# Altium integrated library con-panduit.IntLib: 22 symbols
Pins are listed as number, name and electrical type; pins without a type are passive.

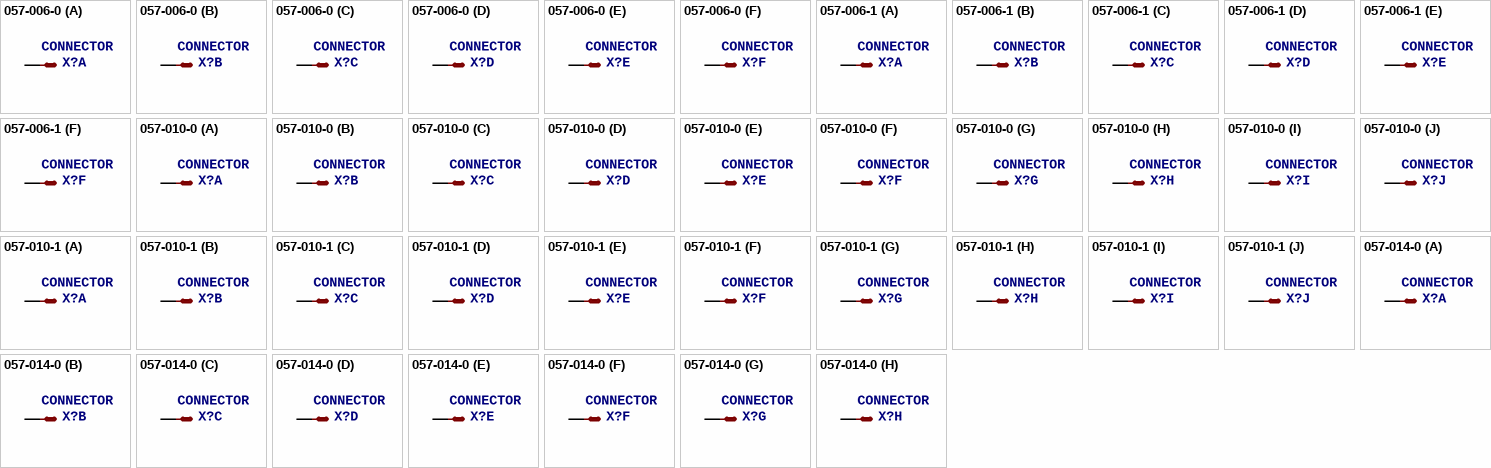
[diagram p0: symbols 057-006-0 to 057-014-0]

## 057-006-0
designator X?, comment CONNECTOR   6-pin series 057 contact pc board low profile headers
OC_FARNELL: unknown; OC_NEWARK: unknown
footprint 057-006-0
part A pins: 1 S
part B pins: 2 S
part C pins: 3 S
part D pins: 4 S
part E pins: 5 S
part F pins: 6 S

## 057-006-1
designator X?, comment CONNECTOR   6-pin series 057 contact pc board low profile headers
OC_FARNELL: unknown; OC_NEWARK: unknown
footprint 057-006-1
part A pins: 1 S
part B pins: 2 S
part C pins: 3 S
part D pins: 4 S
part E pins: 5 S
part F pins: 6 S

## 057-010-0
designator X?, comment CONNECTOR   10-pin series 057 contact pc board low profile headers
OC_FARNELL: unknown; OC_NEWARK: unknown
footprint 057-010-0
part A pins: 1 S
part B pins: 2 S
part C pins: 3 S
part D pins: 4 S
part E pins: 5 S
part F pins: 6 S
part G pins: 7 S
part H pins: 8 S
part I pins: 9 S
part J pins: 10 S

## 057-010-1
designator X?, comment CONNECTOR   10-pin series 057 contact pc board low profile headers
OC_FARNELL: unknown; OC_NEWARK: unknown
footprint 057-010-1
part A pins: 1 S
part B pins: 2 S
part C pins: 3 S
part D pins: 4 S
part E pins: 5 S
part F pins: 6 S
part G pins: 7 S
part H pins: 8 S
part I pins: 9 S
part J pins: 10 S

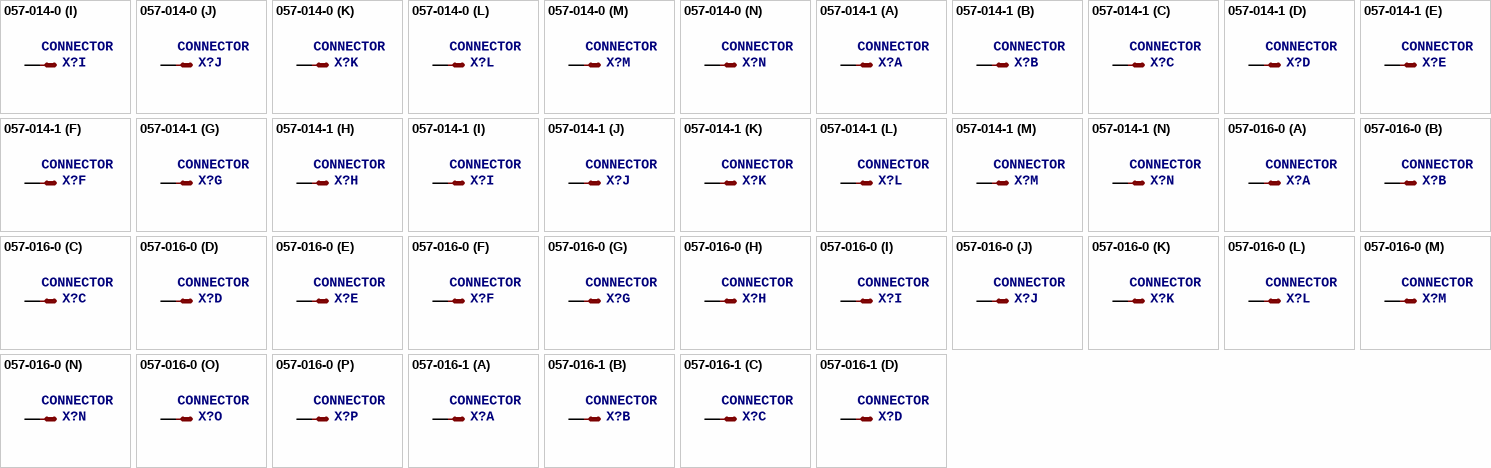
[diagram p1: symbols 057-014-0 to 057-016-1]

## 057-014-0
designator X?, comment CONNECTOR   10-pin series 057 contact pc board low profile headers
OC_FARNELL: unknown; OC_NEWARK: unknown
footprint 057-014-0
part A pins: 1 S
part B pins: 2 S
part C pins: 3 S
part D pins: 4 S
part E pins: 5 S
part F pins: 6 S
part G pins: 7 S
part H pins: 8 S
part I pins: 9 S
part J pins: 10 S
part K pins: 11 S
part L pins: 12 S
part M pins: 13 S
part N pins: 14 S

## 057-014-1
designator X?, comment CONNECTOR   10-pin series 057 contact pc board low profile headers
OC_FARNELL: unknown; OC_NEWARK: unknown
footprint 057-014-1
part A pins: 1 S
part B pins: 2 S
part C pins: 3 S
part D pins: 4 S
part E pins: 5 S
part F pins: 6 S
part G pins: 7 S
part H pins: 8 S
part I pins: 9 S
part J pins: 10 S
part K pins: 11 S
part L pins: 12 S
part M pins: 13 S
part N pins: 14 S

## 057-016-0
designator X?, comment CONNECTOR   10-pin series 057 contact pc board low profile headers
OC_FARNELL: unknown; OC_NEWARK: unknown
footprint 057-016-0
part A pins: 1 S
part B pins: 2 S
part C pins: 3 S
part D pins: 4 S
part E pins: 5 S
part F pins: 6 S
part G pins: 7 S
part H pins: 8 S
part I pins: 9 S
part J pins: 10 S
part K pins: 11 S
part L pins: 12 S
part M pins: 13 S
part N pins: 14 S
part O pins: 15 S
part P pins: 16 S

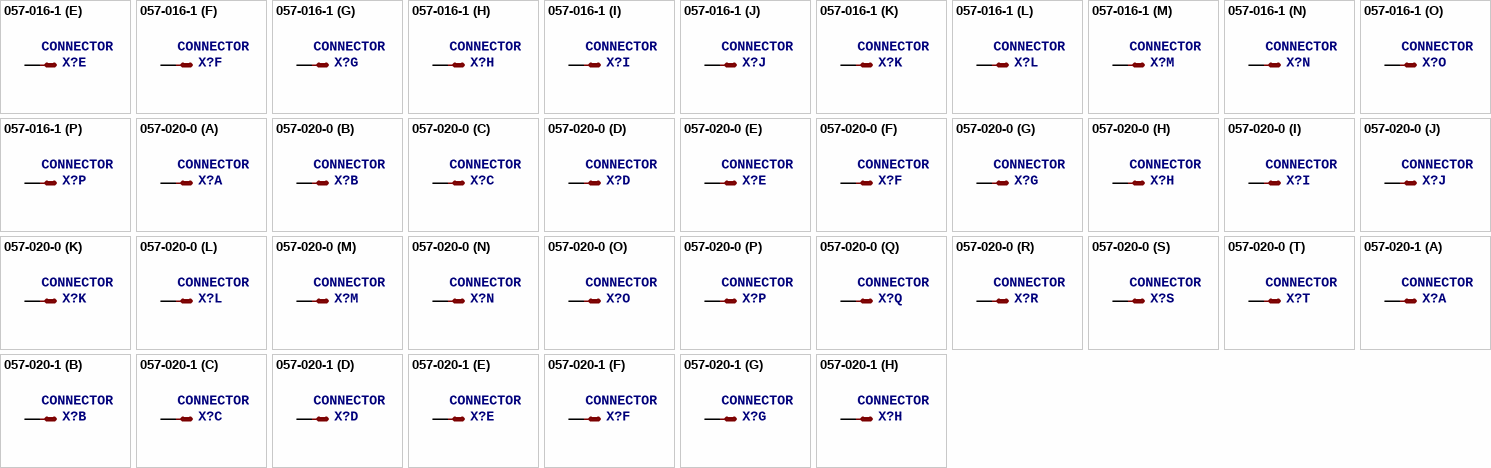
[diagram p2: symbols 057-016-1 to 057-020-1]

## 057-016-1
designator X?, comment CONNECTOR   10-pin series 057 contact pc board low profile headers
OC_FARNELL: unknown; OC_NEWARK: unknown
footprint 057-016-1
part A pins: 1 S
part B pins: 2 S
part C pins: 3 S
part D pins: 4 S
part E pins: 5 S
part F pins: 6 S
part G pins: 7 S
part H pins: 8 S
part I pins: 9 S
part J pins: 10 S
part K pins: 11 S
part L pins: 12 S
part M pins: 13 S
part N pins: 14 S
part O pins: 15 S
part P pins: 16 S

## 057-020-0
designator X?, comment CONNECTOR   20-pin series 057 contact pc board low profile headers
OC_FARNELL: unknown; OC_NEWARK: unknown
footprint 057-020-0
part A pins: 1 S
part B pins: 2 S
part C pins: 3 S
part D pins: 4 S
part E pins: 5 S
part F pins: 6 S
part G pins: 7 S
part H pins: 8 S
part I pins: 9 S
part J pins: 10 S
part K pins: 11 S
part L pins: 12 S
part M pins: 13 S
part N pins: 14 S
part O pins: 15 S
part P pins: 16 S
part Q pins: 17 S
part R pins: 18 S
part S pins: 19 S
part T pins: 20 S

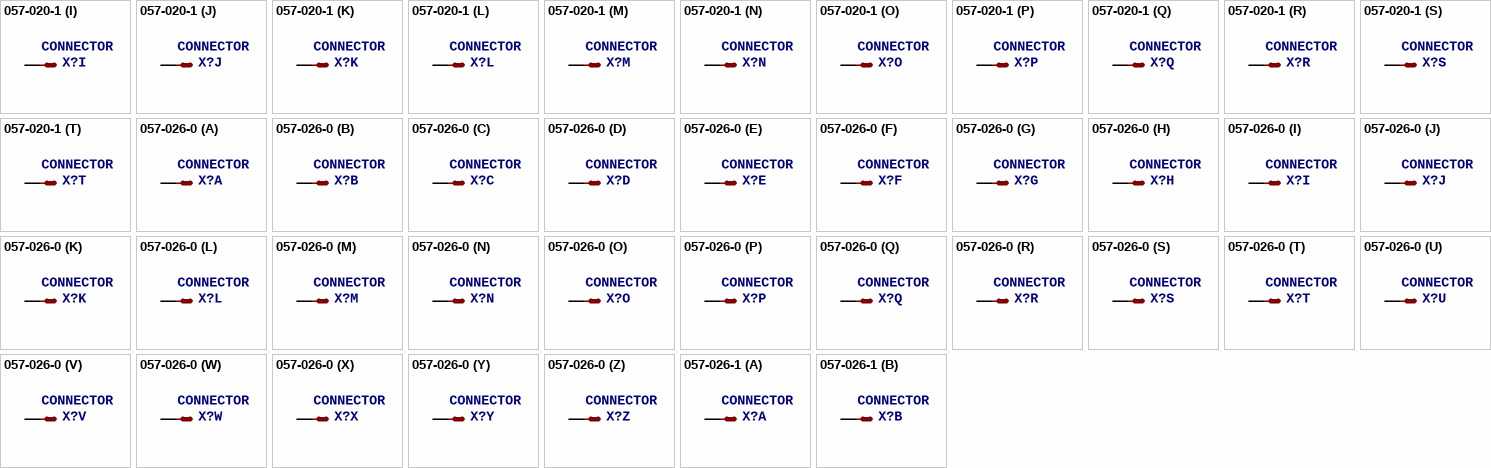
[diagram p3: symbols 057-020-1 to 057-026-1]

## 057-020-1
designator X?, comment CONNECTOR   20-pin series 057 contact pc board low profile headers
OC_FARNELL: unknown; OC_NEWARK: unknown
footprint 057-020-1
part A pins: 1 S
part B pins: 2 S
part C pins: 3 S
part D pins: 4 S
part E pins: 5 S
part F pins: 6 S
part G pins: 7 S
part H pins: 8 S
part I pins: 9 S
part J pins: 10 S
part K pins: 11 S
part L pins: 12 S
part M pins: 13 S
part N pins: 14 S
part O pins: 15 S
part P pins: 16 S
part Q pins: 17 S
part R pins: 18 S
part S pins: 19 S
part T pins: 20 S

## 057-026-0
designator X?, comment CONNECTOR   20-pin series 057 contact pc board low profile headers
OC_FARNELL: unknown; OC_NEWARK: unknown
footprint 057-026-0
part A pins: 1 S
part B pins: 2 S
part C pins: 3 S
part D pins: 4 S
part E pins: 5 S
part F pins: 6 S
part G pins: 7 S
part H pins: 8 S
part I pins: 9 S
part J pins: 10 S
part K pins: 11 S
part L pins: 12 S
part M pins: 13 S
part N pins: 14 S
part O pins: 15 S
part P pins: 16 S
part Q pins: 17 S
part R pins: 18 S
part S pins: 19 S
part T pins: 20 S
part U pins: 21 S
part V pins: 22 S
part W pins: 23 S
part X pins: 24 S
part Y pins: 25 S
part Z pins: 26 S

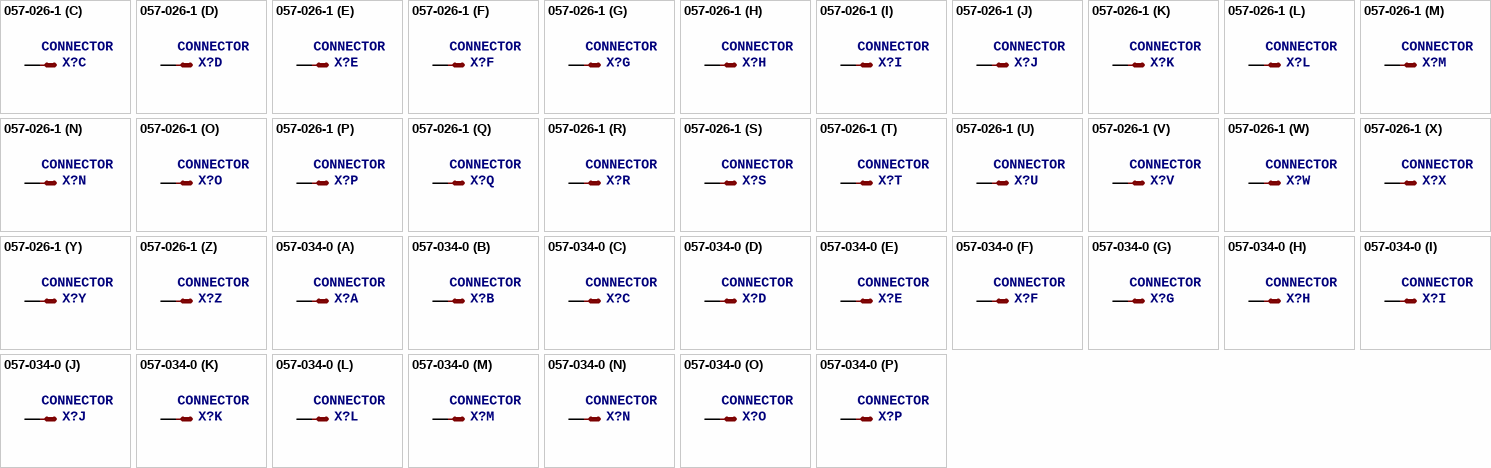
[diagram p4: symbols 057-026-1 to 057-034-0]

## 057-026-1
designator X?, comment CONNECTOR   20-pin series 057 contact pc board low profile headers
OC_FARNELL: unknown; OC_NEWARK: unknown
footprint 057-026-1
part A pins: 1 S
part B pins: 2 S
part C pins: 3 S
part D pins: 4 S
part E pins: 5 S
part F pins: 6 S
part G pins: 7 S
part H pins: 8 S
part I pins: 9 S
part J pins: 10 S
part K pins: 11 S
part L pins: 12 S
part M pins: 13 S
part N pins: 14 S
part O pins: 15 S
part P pins: 16 S
part Q pins: 17 S
part R pins: 18 S
part S pins: 19 S
part T pins: 20 S
part U pins: 21 S
part V pins: 22 S
part W pins: 23 S
part X pins: 24 S
part Y pins: 25 S
part Z pins: 26 S

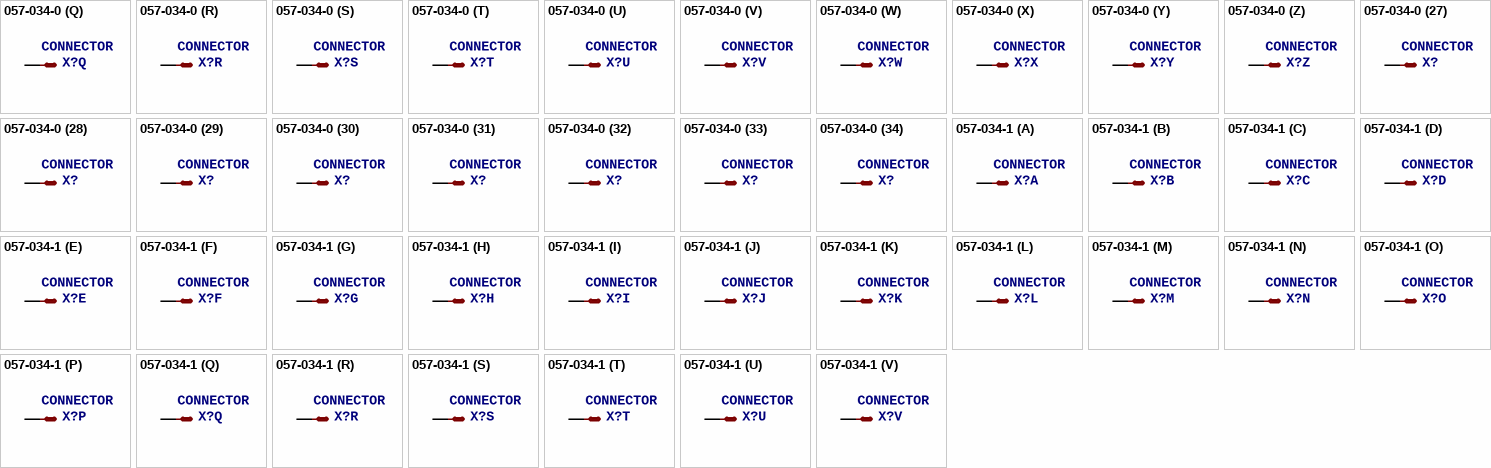
[diagram p5: symbols 057-034-0 to 057-034-1]

## 057-034-0
designator X?, comment CONNECTOR   34-pin series 057 contact pc board low profile headers
OC_FARNELL: unknown; OC_NEWARK: unknown
footprint 057-034-0
part A pins: 1 S
part B pins: 2 S
part C pins: 3 S
part D pins: 4 S
part E pins: 5 S
part F pins: 6 S
part G pins: 7 S
part H pins: 8 S
part I pins: 9 S
part J pins: 10 S
part K pins: 11 S
part L pins: 12 S
part M pins: 13 S
part N pins: 14 S
part O pins: 15 S
part P pins: 16 S
part Q pins: 17 S
part R pins: 18 S
part S pins: 19 S
part T pins: 20 S
part U pins: 21 S
part V pins: 22 S
part W pins: 23 S
part X pins: 24 S
part Y pins: 25 S
part Z pins: 26 S
part 27 pins: 27 S
part 28 pins: 28 S
part 29 pins: 29 S
part 30 pins: 30 S
part 31 pins: 31 S
part 32 pins: 32 S
part 33 pins: 33 S
part 34 pins: 34 S

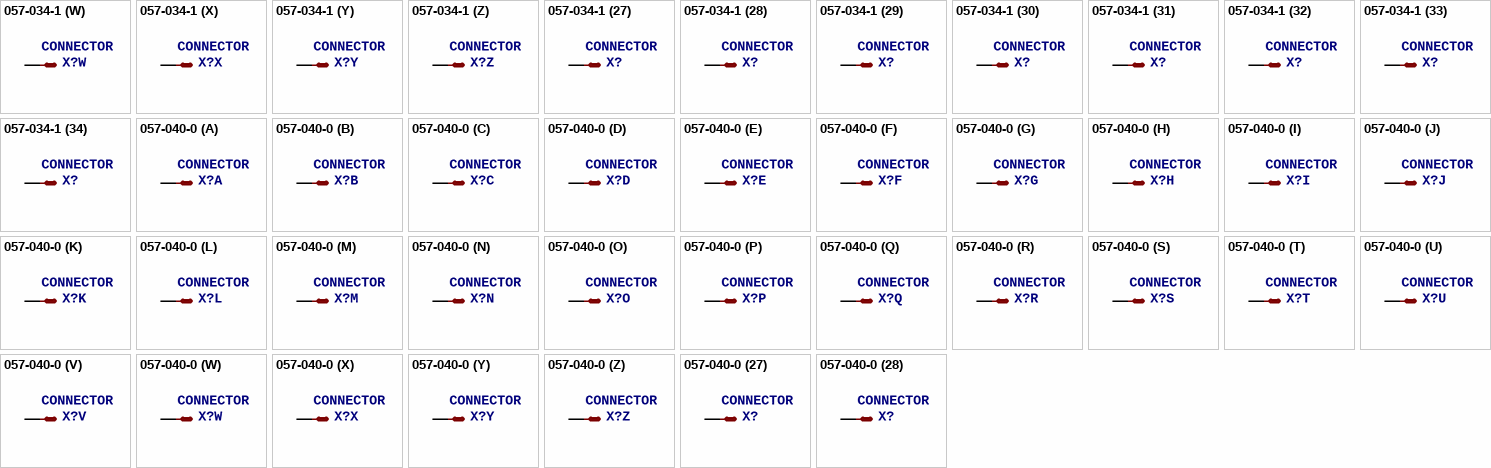
[diagram p6: symbols 057-034-1 to 057-040-0]

## 057-034-1
designator X?, comment CONNECTOR   34-pin series 057 contact pc board low profile headers
OC_FARNELL: unknown; OC_NEWARK: unknown
footprint 057-034-1
part A pins: 1 S
part B pins: 2 S
part C pins: 3 S
part D pins: 4 S
part E pins: 5 S
part F pins: 6 S
part G pins: 7 S
part H pins: 8 S
part I pins: 9 S
part J pins: 10 S
part K pins: 11 S
part L pins: 12 S
part M pins: 13 S
part N pins: 14 S
part O pins: 15 S
part P pins: 16 S
part Q pins: 17 S
part R pins: 18 S
part S pins: 19 S
part T pins: 20 S
part U pins: 21 S
part V pins: 22 S
part W pins: 23 S
part X pins: 24 S
part Y pins: 25 S
part Z pins: 26 S
part 27 pins: 27 S
part 28 pins: 28 S
part 29 pins: 29 S
part 30 pins: 30 S
part 31 pins: 31 S
part 32 pins: 32 S
part 33 pins: 33 S
part 34 pins: 34 S

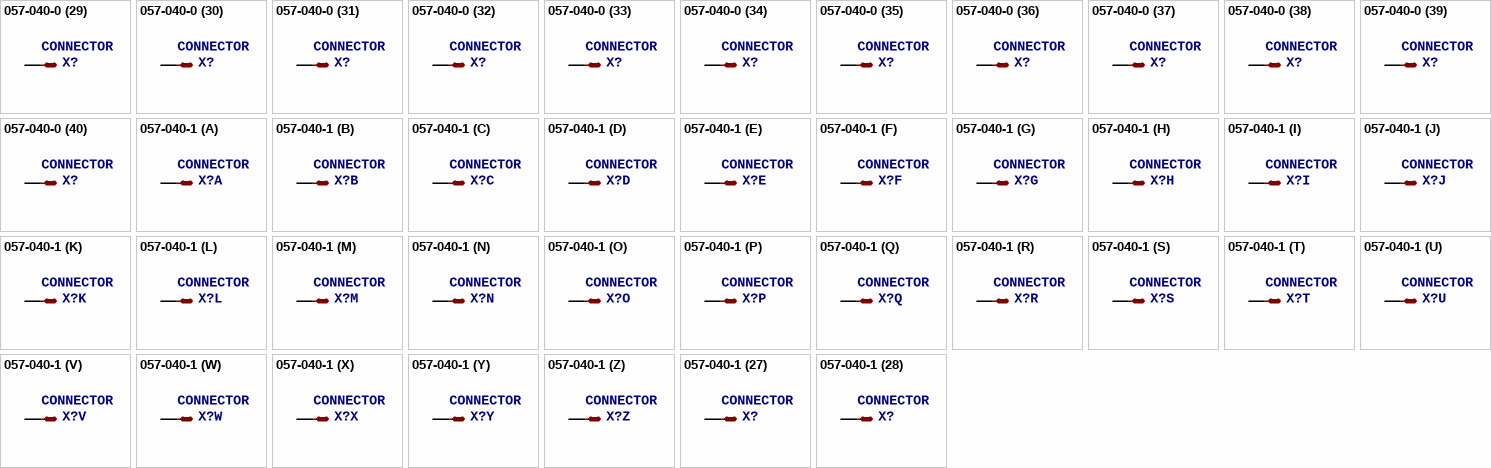
[diagram p7: symbols 057-040-0 to 057-040-1]

## 057-040-0
designator X?, comment CONNECTOR   40-pin series 057 contact pc board low profile headers
OC_FARNELL: unknown; OC_NEWARK: unknown
footprint 057-040-0
part A pins: 1 S
part B pins: 2 S
part C pins: 3 S
part D pins: 4 S
part E pins: 5 S
part F pins: 6 S
part G pins: 7 S
part H pins: 8 S
part I pins: 9 S
part J pins: 10 S
part K pins: 11 S
part L pins: 12 S
part M pins: 13 S
part N pins: 14 S
part O pins: 15 S
part P pins: 16 S
part Q pins: 17 S
part R pins: 18 S
part S pins: 19 S
part T pins: 20 S
part U pins: 21 S
part V pins: 22 S
part W pins: 23 S
part X pins: 24 S
part Y pins: 25 S
part Z pins: 26 S
part 27 pins: 27 S
part 28 pins: 28 S
part 29 pins: 29 S
part 30 pins: 30 S
part 31 pins: 31 S
part 32 pins: 32 S
part 33 pins: 33 S
part 34 pins: 34 S
part 35 pins: 35 S
part 36 pins: 36 S
part 37 pins: 37 S
part 38 pins: 38 S
part 39 pins: 39 S
part 40 pins: 40 S

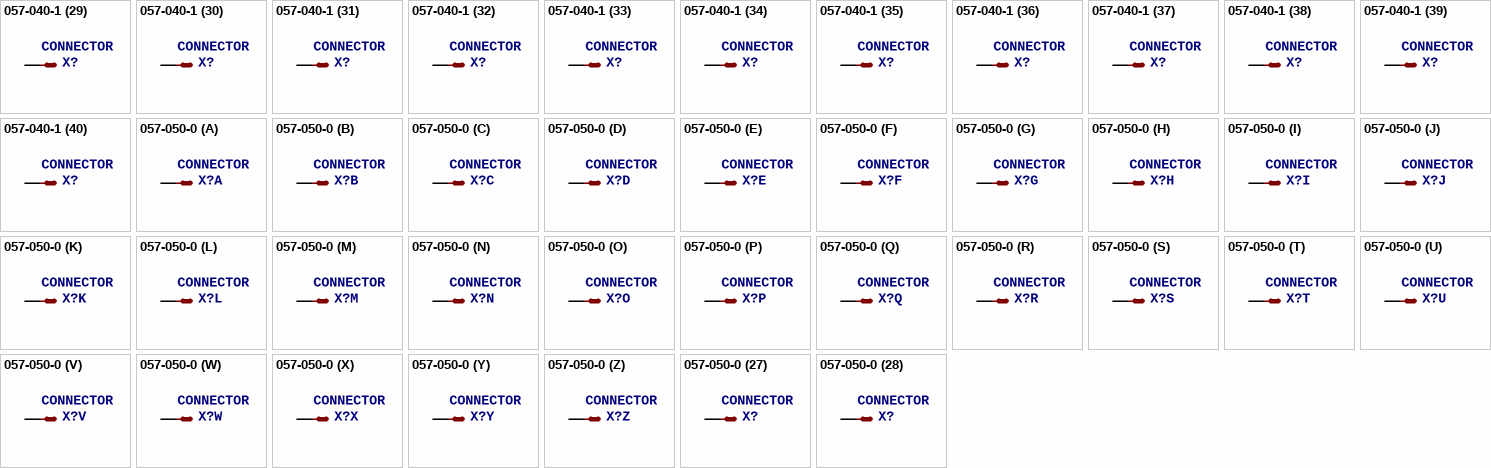
[diagram p8: symbols 057-040-1 to 057-050-0]

## 057-040-1
designator X?, comment CONNECTOR   40-pin series 057 contact pc board low profile headers
OC_FARNELL: unknown; OC_NEWARK: unknown
footprint 057-040-1
part A pins: 1 S
part B pins: 2 S
part C pins: 3 S
part D pins: 4 S
part E pins: 5 S
part F pins: 6 S
part G pins: 7 S
part H pins: 8 S
part I pins: 9 S
part J pins: 10 S
part K pins: 11 S
part L pins: 12 S
part M pins: 13 S
part N pins: 14 S
part O pins: 15 S
part P pins: 16 S
part Q pins: 17 S
part R pins: 18 S
part S pins: 19 S
part T pins: 20 S
part U pins: 21 S
part V pins: 22 S
part W pins: 23 S
part X pins: 24 S
part Y pins: 25 S
part Z pins: 26 S
part 27 pins: 27 S
part 28 pins: 28 S
part 29 pins: 29 S
part 30 pins: 30 S
part 31 pins: 31 S
part 32 pins: 32 S
part 33 pins: 33 S
part 34 pins: 34 S
part 35 pins: 35 S
part 36 pins: 36 S
part 37 pins: 37 S
part 38 pins: 38 S
part 39 pins: 39 S
part 40 pins: 40 S

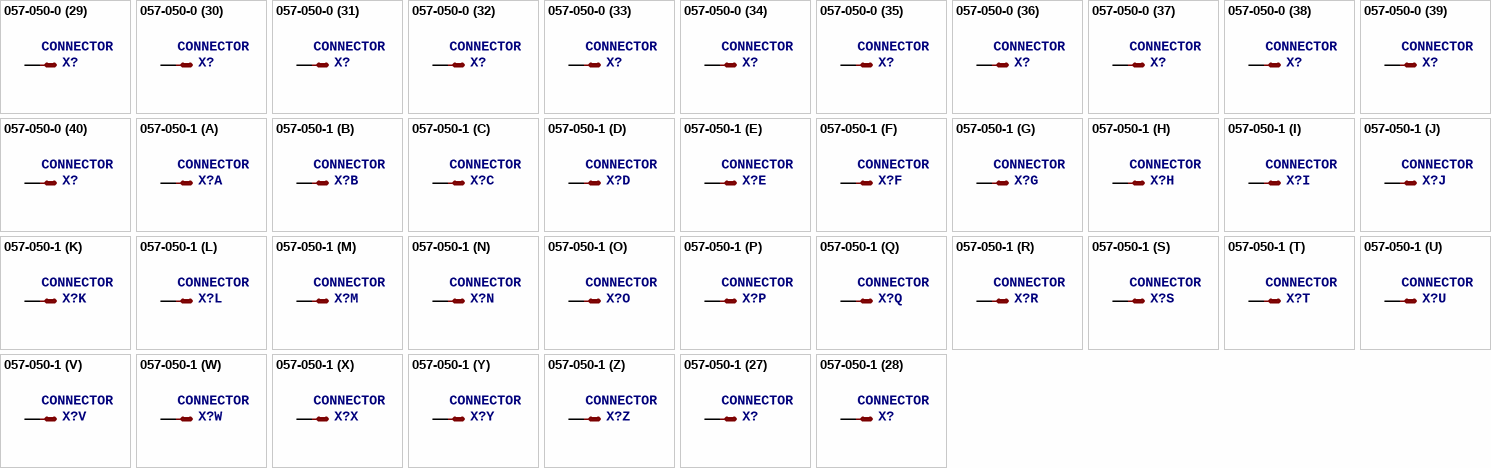
[diagram p9: symbols 057-050-0 to 057-050-1]

## 057-050-0
designator X?, comment CONNECTOR   50-pin series 057 contact pc board low profile headers
OC_FARNELL: unknown; OC_NEWARK: unknown
footprint 057-050-0
part A pins: 1 S
part B pins: 2 S
part C pins: 3 S
part D pins: 4 S
part E pins: 5 S
part F pins: 6 S
part G pins: 7 S
part H pins: 8 S
part I pins: 9 S
part J pins: 10 S
part K pins: 11 S
part L pins: 12 S
part M pins: 13 S
part N pins: 14 S
part O pins: 15 S
part P pins: 16 S
part Q pins: 17 S
part R pins: 18 S
part S pins: 19 S
part T pins: 20 S
part U pins: 21 S
part V pins: 22 S
part W pins: 23 S
part X pins: 24 S
part Y pins: 25 S
part Z pins: 26 S
part 27 pins: 27 S
part 28 pins: 28 S
part 29 pins: 29 S
part 30 pins: 30 S
part 31 pins: 31 S
part 32 pins: 32 S
part 33 pins: 33 S
part 34 pins: 34 S
part 35 pins: 35 S
part 36 pins: 36 S
part 37 pins: 37 S
part 38 pins: 38 S
part 39 pins: 39 S
part 40 pins: 40 S
part 41 pins: 41 S
part 42 pins: 42 S
part 43 pins: 43 S
part 44 pins: 44 S
part 45 pins: 45 S
part 46 pins: 46 S
part 47 pins: 47 S
part 48 pins: 48 S
part 49 pins: 49 S
part 50 pins: 50 S

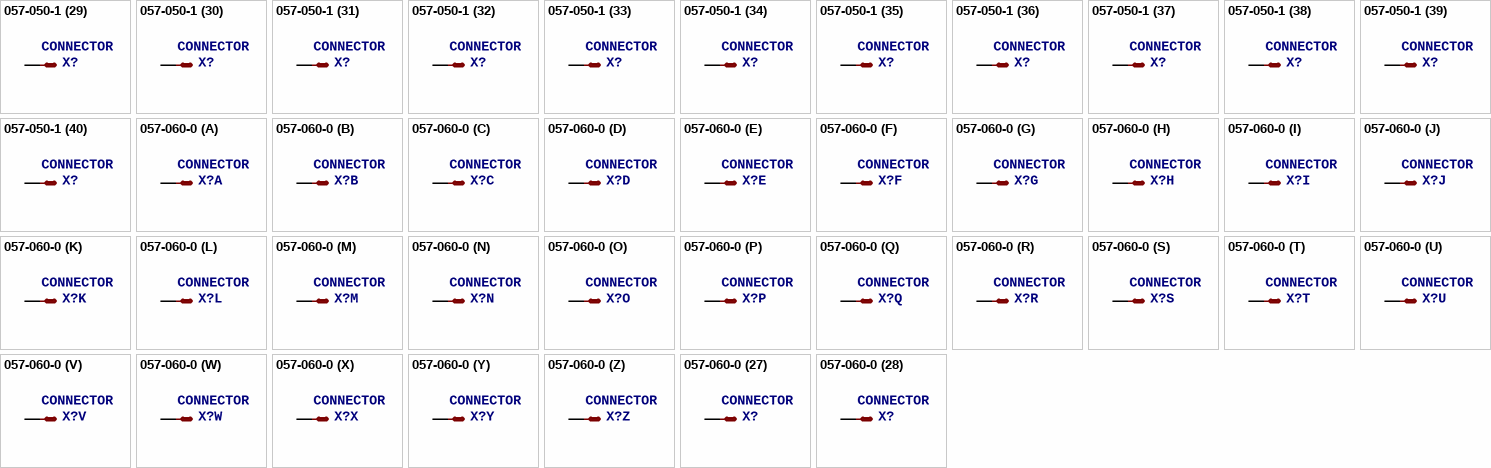
[diagram p10: symbols 057-050-1 to 057-060-0]

## 057-050-1
designator X?, comment CONNECTOR   50-pin series 057 contact pc board low profile headers
OC_FARNELL: unknown; OC_NEWARK: unknown
footprint 057-050-1
part A pins: 1 S
part B pins: 2 S
part C pins: 3 S
part D pins: 4 S
part E pins: 5 S
part F pins: 6 S
part G pins: 7 S
part H pins: 8 S
part I pins: 9 S
part J pins: 10 S
part K pins: 11 S
part L pins: 12 S
part M pins: 13 S
part N pins: 14 S
part O pins: 15 S
part P pins: 16 S
part Q pins: 17 S
part R pins: 18 S
part S pins: 19 S
part T pins: 20 S
part U pins: 21 S
part V pins: 22 S
part W pins: 23 S
part X pins: 24 S
part Y pins: 25 S
part Z pins: 26 S
part 27 pins: 27 S
part 28 pins: 28 S
part 29 pins: 29 S
part 30 pins: 30 S
part 31 pins: 31 S
part 32 pins: 32 S
part 33 pins: 33 S
part 34 pins: 34 S
part 35 pins: 35 S
part 36 pins: 36 S
part 37 pins: 37 S
part 38 pins: 38 S
part 39 pins: 39 S
part 40 pins: 40 S
part 41 pins: 41 S
part 42 pins: 42 S
part 43 pins: 43 S
part 44 pins: 44 S
part 45 pins: 45 S
part 46 pins: 46 S
part 47 pins: 47 S
part 48 pins: 48 S
part 49 pins: 49 S
part 50 pins: 50 S

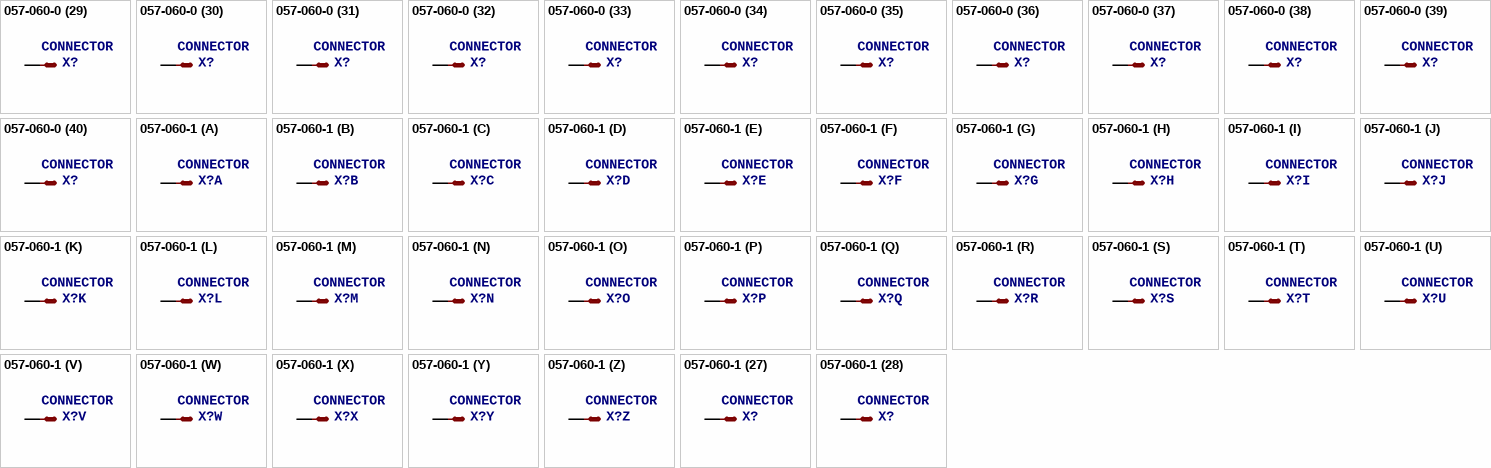
[diagram p11: symbols 057-060-0 to 057-060-1]

## 057-060-0
designator X?, comment CONNECTOR   60-pin series 057 contact pc board low profile headers
OC_FARNELL: unknown; OC_NEWARK: unknown
footprint 057-060-0
part A pins: 1 S
part B pins: 2 S
part C pins: 3 S
part D pins: 4 S
part E pins: 5 S
part F pins: 6 S
part G pins: 7 S
part H pins: 8 S
part I pins: 9 S
part J pins: 10 S
part K pins: 11 S
part L pins: 12 S
part M pins: 13 S
part N pins: 14 S
part O pins: 15 S
part P pins: 16 S
part Q pins: 17 S
part R pins: 18 S
part S pins: 19 S
part T pins: 20 S
part U pins: 21 S
part V pins: 22 S
part W pins: 23 S
part X pins: 24 S
part Y pins: 25 S
part Z pins: 26 S
part 27 pins: 27 S
part 28 pins: 28 S
part 29 pins: 29 S
part 30 pins: 30 S
part 31 pins: 31 S
part 32 pins: 32 S
part 33 pins: 33 S
part 34 pins: 34 S
part 35 pins: 35 S
part 36 pins: 36 S
part 37 pins: 37 S
part 38 pins: 38 S
part 39 pins: 39 S
part 40 pins: 40 S
part 41 pins: 41 S
part 42 pins: 42 S
part 43 pins: 43 S
part 44 pins: 44 S
part 45 pins: 45 S
part 46 pins: 46 S
part 47 pins: 47 S
part 48 pins: 48 S
part 49 pins: 49 S
part 50 pins: 50 S
part 51 pins: 51 S
part 52 pins: 52 S
part 53 pins: 53 S
part 54 pins: 54 S
part 55 pins: 55 S
part 56 pins: 56 S
part 57 pins: 57 S
part 58 pins: 58 S
part 59 pins: 59 S
part 60 pins: 60 S

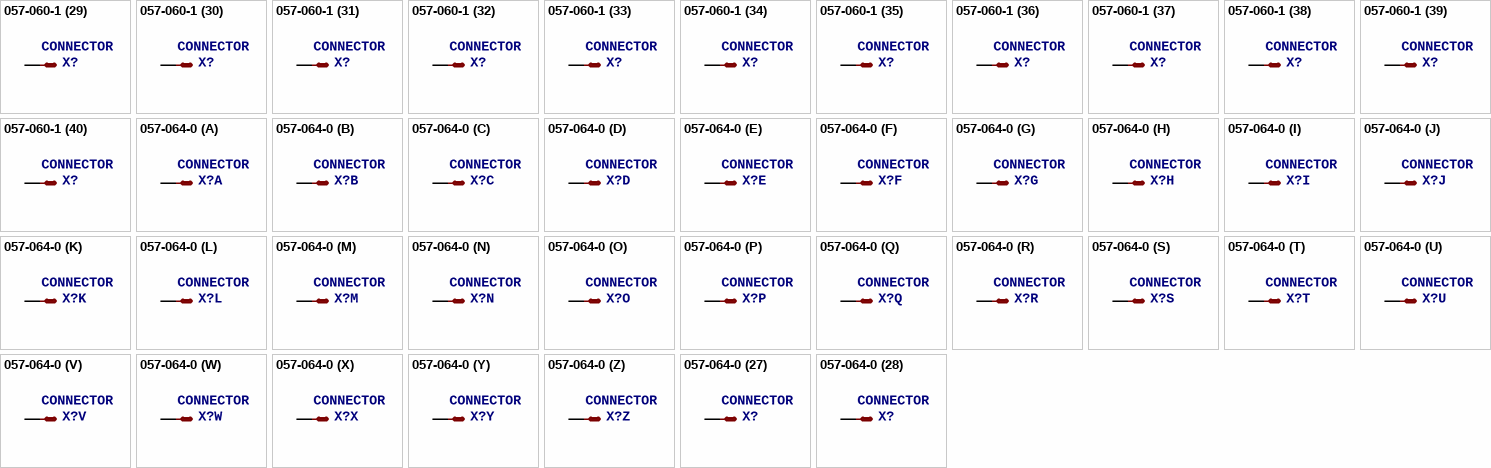
[diagram p12: symbols 057-060-1 to 057-064-0]

## 057-060-1
designator X?, comment CONNECTOR   60-pin series 057 contact pc board low profile headers
OC_FARNELL: unknown; OC_NEWARK: unknown
footprint 057-060-1
part A pins: 1 S
part B pins: 2 S
part C pins: 3 S
part D pins: 4 S
part E pins: 5 S
part F pins: 6 S
part G pins: 7 S
part H pins: 8 S
part I pins: 9 S
part J pins: 10 S
part K pins: 11 S
part L pins: 12 S
part M pins: 13 S
part N pins: 14 S
part O pins: 15 S
part P pins: 16 S
part Q pins: 17 S
part R pins: 18 S
part S pins: 19 S
part T pins: 20 S
part U pins: 21 S
part V pins: 22 S
part W pins: 23 S
part X pins: 24 S
part Y pins: 25 S
part Z pins: 26 S
part 27 pins: 27 S
part 28 pins: 28 S
part 29 pins: 29 S
part 30 pins: 30 S
part 31 pins: 31 S
part 32 pins: 32 S
part 33 pins: 33 S
part 34 pins: 34 S
part 35 pins: 35 S
part 36 pins: 36 S
part 37 pins: 37 S
part 38 pins: 38 S
part 39 pins: 39 S
part 40 pins: 40 S
part 41 pins: 41 S
part 42 pins: 42 S
part 43 pins: 43 S
part 44 pins: 44 S
part 45 pins: 45 S
part 46 pins: 46 S
part 47 pins: 47 S
part 48 pins: 48 S
part 49 pins: 49 S
part 50 pins: 50 S
part 51 pins: 51 S
part 52 pins: 52 S
part 53 pins: 53 S
part 54 pins: 54 S
part 55 pins: 55 S
part 56 pins: 56 S
part 57 pins: 57 S
part 58 pins: 58 S
part 59 pins: 59 S
part 60 pins: 60 S

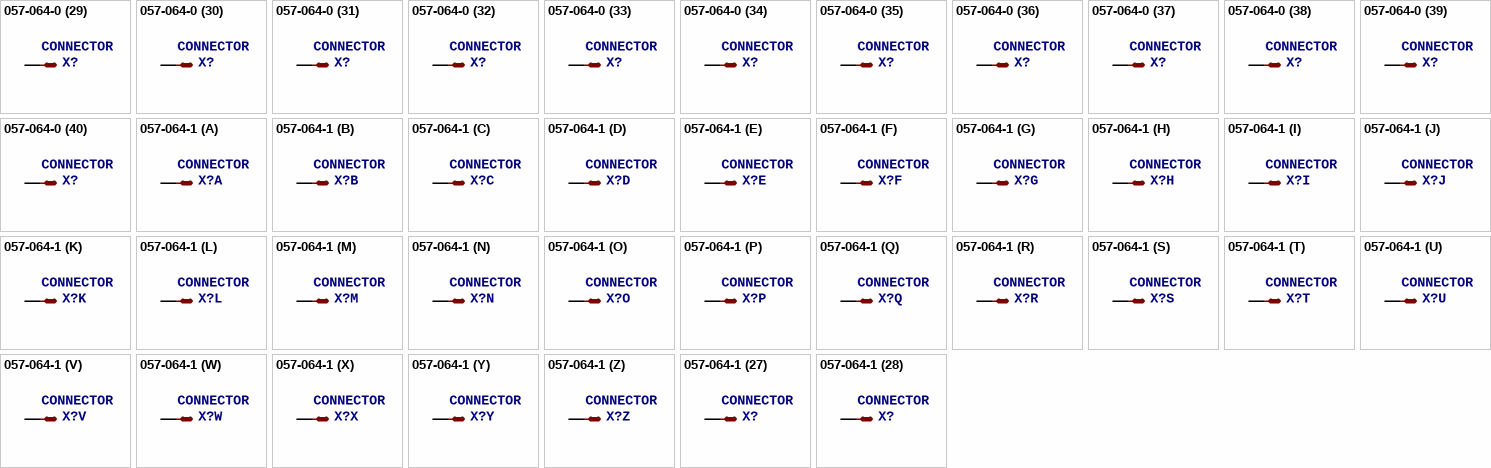
[diagram p13: symbols 057-064-0 to 057-064-1]

## 057-064-0
designator X?, comment CONNECTOR   64-pin series 057 contact pc board low profile headers
OC_FARNELL: unknown; OC_NEWARK: unknown
footprint 057-064-0
part A pins: 1 S
part B pins: 2 S
part C pins: 3 S
part D pins: 4 S
part E pins: 5 S
part F pins: 6 S
part G pins: 7 S
part H pins: 8 S
part I pins: 9 S
part J pins: 10 S
part K pins: 11 S
part L pins: 12 S
part M pins: 13 S
part N pins: 14 S
part O pins: 15 S
part P pins: 16 S
part Q pins: 17 S
part R pins: 18 S
part S pins: 19 S
part T pins: 20 S
part U pins: 21 S
part V pins: 22 S
part W pins: 23 S
part X pins: 24 S
part Y pins: 25 S
part Z pins: 26 S
part 27 pins: 27 S
part 28 pins: 28 S
part 29 pins: 29 S
part 30 pins: 30 S
part 31 pins: 31 S
part 32 pins: 32 S
part 33 pins: 33 S
part 34 pins: 34 S
part 35 pins: 35 S
part 36 pins: 36 S
part 37 pins: 37 S
part 38 pins: 38 S
part 39 pins: 39 S
part 40 pins: 40 S
part 41 pins: 41 S
part 42 pins: 42 S
part 43 pins: 43 S
part 44 pins: 44 S
part 45 pins: 45 S
part 46 pins: 46 S
part 47 pins: 47 S
part 48 pins: 48 S
part 49 pins: 49 S
part 50 pins: 50 S
part 51 pins: 51 S
part 52 pins: 52 S
part 53 pins: 53 S
part 54 pins: 54 S
part 55 pins: 55 S
part 56 pins: 56 S
part 57 pins: 57 S
part 58 pins: 58 S
part 59 pins: 59 S
part 60 pins: 60 S
part 61 pins: 61 S
part 62 pins: 62 S
part 63 pins: 63 S
part 64 pins: 64 S

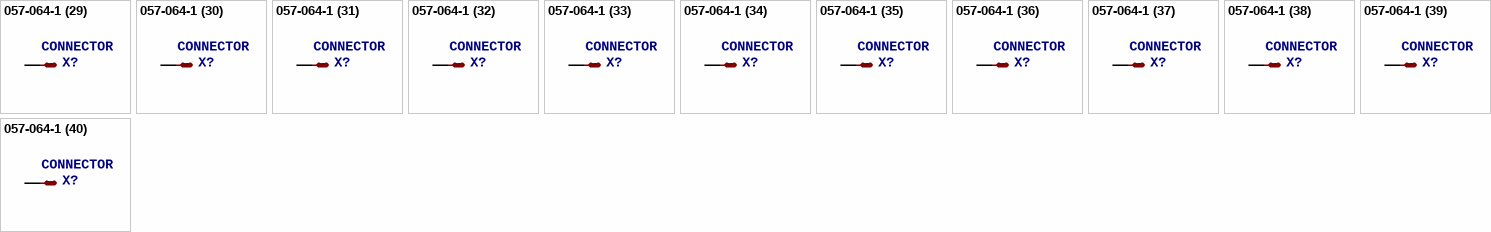
[diagram p14: symbol 057-064-1]

## 057-064-1
designator X?, comment CONNECTOR   64-pin series 057 contact pc board low profile headers
OC_FARNELL: unknown; OC_NEWARK: unknown
footprint 057-064-1
part A pins: 1 S
part B pins: 2 S
part C pins: 3 S
part D pins: 4 S
part E pins: 5 S
part F pins: 6 S
part G pins: 7 S
part H pins: 8 S
part I pins: 9 S
part J pins: 10 S
part K pins: 11 S
part L pins: 12 S
part M pins: 13 S
part N pins: 14 S
part O pins: 15 S
part P pins: 16 S
part Q pins: 17 S
part R pins: 18 S
part S pins: 19 S
part T pins: 20 S
part U pins: 21 S
part V pins: 22 S
part W pins: 23 S
part X pins: 24 S
part Y pins: 25 S
part Z pins: 26 S
part 27 pins: 27 S
part 28 pins: 28 S
part 29 pins: 29 S
part 30 pins: 30 S
part 31 pins: 31 S
part 32 pins: 32 S
part 33 pins: 33 S
part 34 pins: 34 S
part 35 pins: 35 S
part 36 pins: 36 S
part 37 pins: 37 S
part 38 pins: 38 S
part 39 pins: 39 S
part 40 pins: 40 S
part 41 pins: 41 S
part 42 pins: 42 S
part 43 pins: 43 S
part 44 pins: 44 S
part 45 pins: 45 S
part 46 pins: 46 S
part 47 pins: 47 S
part 48 pins: 48 S
part 49 pins: 49 S
part 50 pins: 50 S
part 51 pins: 51 S
part 52 pins: 52 S
part 53 pins: 53 S
part 54 pins: 54 S
part 55 pins: 55 S
part 56 pins: 56 S
part 57 pins: 57 S
part 58 pins: 58 S
part 59 pins: 59 S
part 60 pins: 60 S
part 61 pins: 61 S
part 62 pins: 62 S
part 63 pins: 63 S
part 64 pins: 64 S